# Altium schematic symbol library Res1-22.SCHLIB: 1 symbol
Pins are listed as number, name and electrical type; pins without a type are passive.

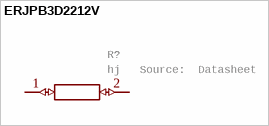
[diagram p0: symbol ERJPB3D2212V]

## ERJPB3D2212V
designator R?, comment hj   Source:  Datasheet
Manufacturer_Name: Panasonic; GateName_1: G$1; SymbolName_1: ERJPB3D2212V; LibraryName: Res1-22.1k; DeviceSetName: ERJPB3D2212V; Package: RESC1608X55N; Manufacturer_Part_Number: ERJPB3D2212V; Description: hj; Height: 0.55mm
footprint RESC1608X55N
pins: 1 (io), 2 (io)